# EAGLE library part CD74HC4067 (library JH)
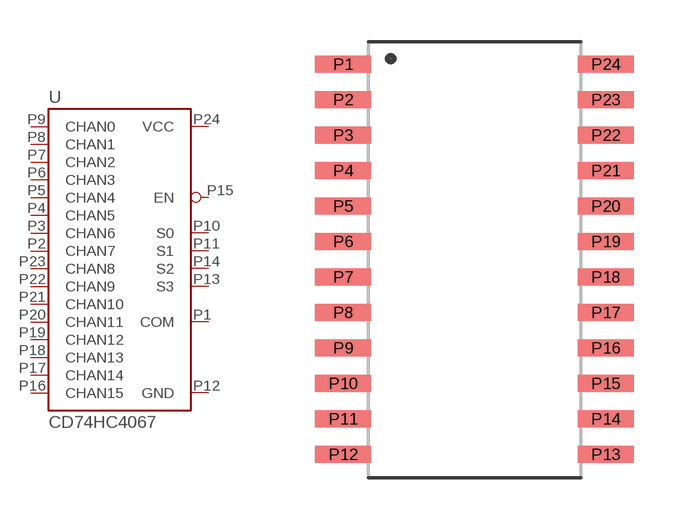
[diagram p3: symbol with the pads of SOIC-24; footprint SOIC-24]

Designator prefix -

## CD74HC4067  [SOIC-24]
P1  COM
P2  CHAN7
P3  CHAN6
P4  CHAN5
P5  CHAN4
P6  CHAN3
P7  CHAN2
P8  CHAN1
P9  CHAN0
P10  S0  in
P11  S1  in
P12  GND
P13  S3  in
P14  S2  in
P15  EN  in
P16  CHAN15
P17  CHAN14
P18  CHAN13
P19  CHAN12
P20  CHAN11
P21  CHAN10
P22  CHAN9
P23  CHAN8
P24  VCC

## Footprint SOIC-24 (pad centres in mm)
smd 2 x 0.6: P1 -4.7,7; P2 -4.7,5.73; P3 -4.7,4.46; P4 -4.7,3.19; P5 -4.7,1.92; P6 -4.7,0.65; P7 -4.7,-0.62; P8 -4.7,-1.89; P9 -4.7,-3.16; P10 -4.7,-4.43; P11 -4.7,-5.7; P12 -4.7,-6.97; P13 4.7,-6.97; P14 4.7,-5.7; P15 4.7,-4.43; P16 4.7,-3.16; P17 4.7,-1.89; P18 4.7,-0.62; P19 4.7,0.65; P20 4.7,1.92; P21 4.7,3.19; P22 4.7,4.46; P23 4.7,5.73; P24 4.7,7